# EAGLE library part LTC3265 (library Rebel)
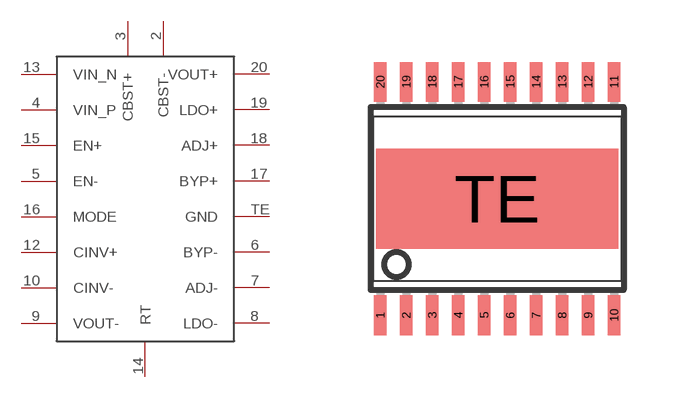
[diagram p20: symbol with the pads of TSSOP20-TE; footprint TSSOP20-TE]

Designator prefix -

## LTC3265  [TSSOP20-TE]
2  CBST-
3  CBST+
4  VIN_P
5  EN-
6  BYP-
7  ADJ-
8  LDO-
9  VOUT-
10  CINV-
12  CINV+
13  VIN_N
14  RT
15  EN+
16  MODE
17  BYP+
18  ADJ+
19  LDO+
20  VOUT+
TE  GND

## Footprint TSSOP20-TE (pad centres in mm)
Thermally enhanced 20-pin TSSOP (LTC3265).
smd 0.305 x 0.991: 1 -2.925,-2.918; 2 -2.275,-2.918; 3 -1.625,-2.918; 4 -0.975,-2.918; 5 -0.325,-2.918; 6 0.325,-2.918; 7 0.975,-2.918; 8 1.625,-2.918; 9 2.275,-2.918; 10 2.925,-2.918; 11 2.925,2.918; 12 2.275,2.918; 13 1.625,2.918; 14 0.975,2.918; 15 0.325,2.918; 16 -0.325,2.918; 17 -0.975,2.918; 18 -1.625,2.918; 19 -2.275,2.918; 20 -2.925,2.918
smd 6.07 x 2.5: TE 0,0